# EAGLE library part 50281-011 (library con-aces-50281-series)
ACES CONNECTORS 50281 SERIES ACES Connecors 50281
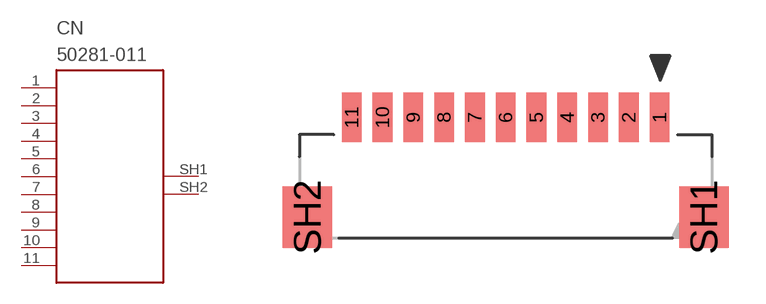
[diagram p7: symbol with the pads of 50281-011; footprint 50281-011]

Designator prefix CN

## 50281-011  [50281-011]
1  1
2  2
3  3
4  4
5  5
6  6
7  7
8  8
9  9
10  10
11  11
SH1  SH1
SH2  SH2

## Footprint 50281-011 (pad centres in mm)
smd 0.8 x 2: 1 6.25,1.9; 2 5,1.9; 3 3.75,1.9; 4 2.5,1.9; 5 1.25,1.9; 6 0,1.9; 7 -1.25,1.9; 8 -2.5,1.9; 9 -3.75,1.9; 10 -5,1.9; 11 -6.25,1.9
smd 2 x 2.5: SH1 8.05,-2.15; SH2 -8.05,-2.15